# Altium footprint library BSPO.PcbLib: 178 footprints (part 1 of 12)
Each footprint in its own frame and in the unit in brackets; x right, y up, seen from the top. Pads: shape width x height; smd on the part's side, far side on the other; paste and mask are expansions set on the pad; w line width, h text height; cw(c..) or ccw(c..) is an arc to the next point about the centre after c.
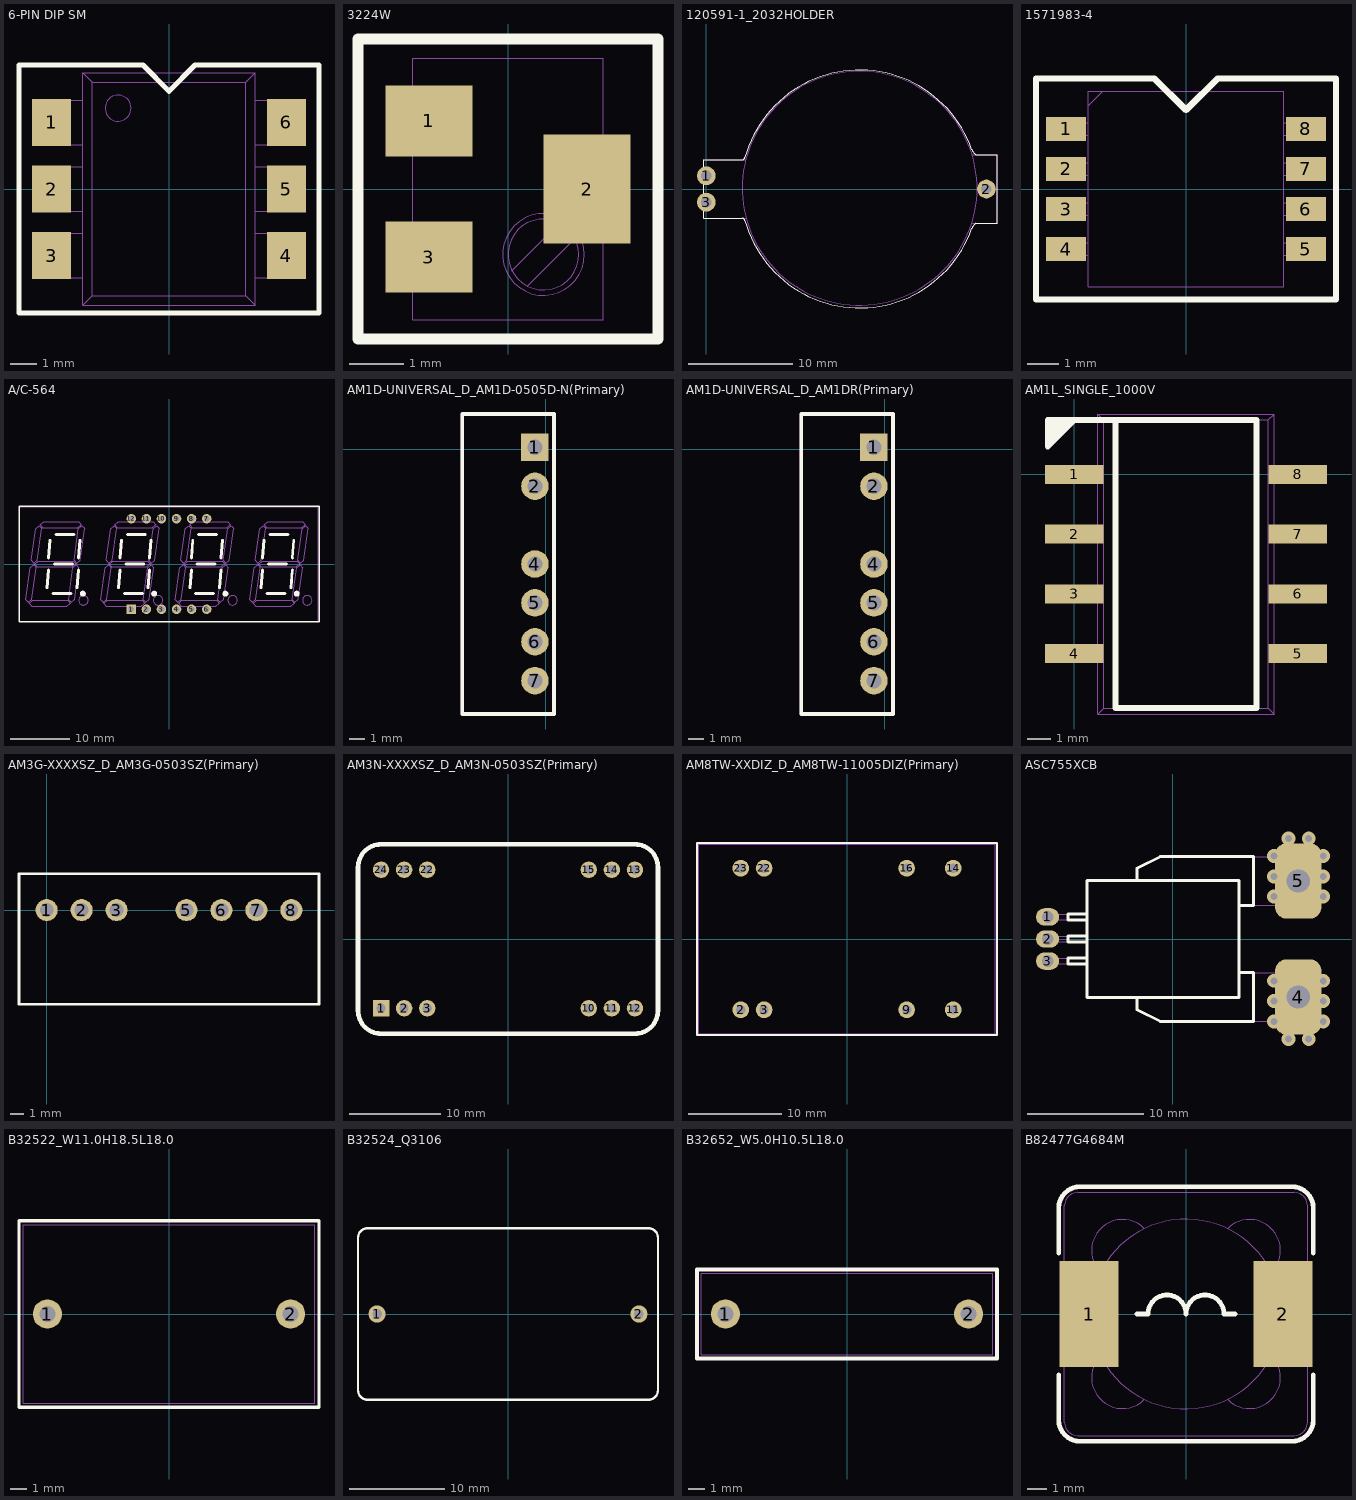
[diagram p0: the footprints below, top view; thin cyan lines are the x and y axes]

## 6-PIN DIP SM [mm]
pads (6):
  rect 1.5x1.8 smd: 1(-4.5,2.55) 2(-4.5,0) 3(-4.5,-2.55) 4(4.5,-2.55) 5(4.5,0) 6(4.5,2.55)
Top Overlay:
  lines w0.2: -5.75,-4.75 5.75,-4.75 5.75,4.75 1,4.75 0,3.75 -1,4.75 -5.75,4.75 -5.75,-4.75
Mechanical 1:
  circle w0.025: c-1.95,3.1 r0.5
  lines w0.025: -4.15,-2.8 -4.75,-2.8 -4.75,-2.55 -4.75,-2.3 -4.15,-2.3 ; -4.15,-0.25 -4.75,-0.25 -4.75,0 -4.75,0.25 -4.15,0.25 ; -4.15,2.3 -4.75,2.3 -4.75,2.55 -4.75,2.8 -4.15,2.8 ; -3.3,-3.4 -4.15,-3.4 -4.15,-1.7 -3.3,-1.7 ; -3.3,-0.85 -4.15,-0.85 -4.15,0.85 -3.3,0.85 ; -3.3,1.7 -4.15,1.7 -4.15,3.4 -3.3,3.4 ; 3.3,-3.4 4.15,-3.4 4.15,-1.7 3.3,-1.7 ; 3.3,-0.85 4.15,-0.85 4.15,0.85 3.3,0.85 ; 3.3,1.7 4.15,1.7 4.15,3.4 3.3,3.4 ; 4.15,-2.8 4.75,-2.8 4.75,-2.55 4.75,-2.3 4.15,-2.3 ; 4.15,-0.25 4.75,-0.25 4.75,0 4.75,0.25 4.15,0.25 ; 4.15,2.3 4.75,2.3 4.75,2.55 4.75,2.8 4.15,2.8 ; -3.3,-4.45 3.3,-4.45 ; -3.3,-4.45 -3.3,4.45 ; -3.3,-4.45 -2.95,-4.1 ; -3.3,4.45 3.3,4.45 ; -3.3,4.45 -2.95,4.1 ; -2.95,-4.1 2.95,-4.1 ; -2.95,-4.1 -2.95,4.1 ; -2.95,4.1 2.95,4.1 ; 2.95,-4.1 2.95,4.1 ; 2.95,-4.1 3.3,-4.45 ; 2.95,4.1 3.3,4.45 ; 3.3,-4.45 3.3,4.45

## 3224W [mm]
pads (3):
  rect 1.6x1.3 smd: 1(-1.45,1.25) 3(-1.45,-1.25)
  rect 1.6x2 smd: 2(1.45,0)
Top Overlay:
  lines w0.2: -2.75,-2.75 2.75,-2.75 2.75,2.75 -2.75,2.75 -2.75,-2.75
Mechanical 1:
  circle w0.02: c0.65,-1.2 r0.75
  circle w0.02: c0.65,-1.2 r0.65
  lines w0.02: 0.071,-1.496 0.946,-0.621 ; 0.354,-1.779 1.229,-0.904 ; -1.75,-2.4 1.75,-2.4 1.75,2.4 -1.75,2.4 -1.75,-2.4
  lines w0.025: -1.75,-1.65 -1.95,-1.65 -1.95,-0.85 -1.75,-0.85 ; -1.75,0.85 -1.95,0.85 -1.95,1.65 -1.75,1.65 ; 1.75,-0.65 1.95,-0.65 1.95,0.65 1.75,0.65

## 120591-1_2032HOLDER [mm]
pads (3):
  round 1.8 hole 1: 1(0,1.27) 2(26.924,0) 3(0,-1.27)
Top Overlay:
  lines w0.1: 3.683,-3.048 ccw(c3.429,-3.048) 3.429,-2.794 -0.254,-2.794 -0.254,2.794 3.429,2.794 ccw(c3.429,3.048) 3.683,3.048 ; 3.712,-3.035 ccw(c14.732,0) 25.513,-3.797 ; 3.712,3.035 cw(c14.732,0) 25.513,3.797 ; 25.527,-3.81 cw(c26.388,-4.059) 25.908,-3.302 27.94,-3.302 27.94,0 27.94,3.302 25.908,3.302 cw(c26.388,4.059) 25.527,3.81
Mechanical 1:
  lines w0.1: -0.254,2.794 -0.254,-2.794 3.81,-2.794 ; -0.127,2.794 3.81,2.794 ; 3.429,0 cw(c14.732,0) 26.034,-0.138 ; 3.43,0.265 ccw(c14.732,0.127) 26.035,0.127 ; 25.527,-3.302 27.94,-3.302 27.94,3.302 25.527,3.302

## 1571983-4 [mm]
pads (8):
  rect 1.27x0.76 smd: 1(-3.8,1.905) 2(-3.8,0.635) 3(-3.8,-0.635) 4(-3.8,-1.905) 5(3.8,-1.905) 6(3.8,-0.635) 7(3.8,0.635) 8(3.8,1.905)
Top Overlay:
  lines w0.2: -4.75,-3.5 4.75,-3.5 4.75,3.5 1,3.5 0,2.5 -1,3.5 -4.75,3.5 -4.75,-3.5
Mechanical 1:
  lines w0.02: -3.103,-2.105 -4.203,-2.105 -4.203,-1.705 -3.103,-1.705 ; -3.103,-0.835 -4.203,-0.835 -4.203,-0.435 -3.103,-0.435 ; -3.103,0.435 -4.203,0.435 -4.203,0.835 -3.103,0.835 ; -3.103,1.705 -4.203,1.705 -4.203,2.105 -3.103,2.105 ; -3.1,2.635 -2.635,3.1 ; 3.103,-2.105 4.203,-2.105 4.203,-1.705 3.103,-1.705 ; 3.103,-0.835 4.203,-0.835 4.203,-0.435 3.103,-0.435 ; 3.103,0.435 4.203,0.435 4.203,0.835 3.103,0.835 ; 3.103,1.705 4.203,1.705 4.203,2.105 3.103,2.105 ; -3.1,-3.1 3.1,-3.1 3.1,3.1 -3.1,3.1 -3.1,-3.1

## A/C-564 [mm]
pads (12):
  rect 1.6x1.6 hole 1: 1(-6.35,-7.62)
  round 1.6 hole 1: 2(-3.81,-7.62) 3(-1.27,-7.62) 4(1.27,-7.62) 5(3.81,-7.62) 6(6.35,-7.62) 7(6.35,7.62) 8(3.81,7.62) 9(1.27,7.62) 10(-1.27,7.62) 11(-3.81,7.62) 12(-6.35,7.62)
Top Overlay:
  circle w0.5: c21.5,-5 r0.25
  circle w0.5: c9.5,-5 r0.25
  circle w0.5: c-2.5,-5 r0.25
  circle w0.5: c-14.5,-5 r0.25
  lines w0.25: -25.25,-9.75 25.25,-9.75 25.25,9.75 -25.25,9.75 -25.25,-9.75
  lines w0.5: -20.5,-4 -20.25,-1 ; -20.25,1 -20,4 ; -19.5,-5 -16.5,-5 ; -19.25,0 -16.25,0 ; -19,5 -16,5 ; -15.5,-4 -15.25,-1 ; -15.25,1 -15,4 ; -8.5,-4 -8.25,-1 ; -8.25,1 -8,4 ; -7.5,-5 -4.5,-5 ; -7.25,0 -4.25,0 ; -7,5 -4,5 ; -3.5,-4 -3.25,-1 ; -3.25,1 -3,4 ; 3.5,-4 3.75,-1 ; 3.75,1 4,4 ; 4.5,-5 7.5,-5 ; 4.75,0 7.75,0 ; 5,5 8,5 ; 8.5,-4 8.75,-1 ; 8.75,1 9,4 ; 15.5,-4 15.75,-1 ; 15.75,1 16,4 ; 16.5,-5 19.5,-5 ; 16.75,0 19.75,0 ; 17,5 20,5 ; 20.5,-4 20.75,-1 ; 20.75,1 21,4
Mechanical 1:
  drawing of 176 lines, arcs and shapes, not listed

## AM1D-UNIVERSAL_D_AM1D-0505D-N(Primary) [mm]
pads (6):
  rect 1.8x1.8 hole 1: 1(-0.69,0.12)
  round 1.8 hole 1: 2(-0.69,-2.42) 4(-0.69,-7.5) 5(-0.69,-10.04) 6(-0.69,-12.58) 7(-0.69,-15.12)
Top Overlay:
  lines w0.25: -5.44,-17.3 0.56,-17.3 0.56,2.3 -5.44,2.3 -5.44,-17.3
Mechanical 1:
  lines w0.025: -5.5,-17.3 0.6,-17.3 0.6,2.3 -5.5,2.3 -5.5,-17.3

## AM1D-UNIVERSAL_D_AM1DR(Primary) [mm]
pads (6):
  rect 1.8x1.8 hole 1: 1(-0.69,0.12)
  round 1.8 hole 1: 2(-0.69,-2.42) 4(-0.69,-7.5) 5(-0.69,-10.04) 6(-0.69,-12.58) 7(-0.69,-15.12)
Top Overlay:
  lines w0.25: -5.44,-17.3 0.56,-17.3 0.56,2.3 -5.44,2.3 -5.44,-17.3
Mechanical 1:
  lines w0.025: -5.5,-17.3 0.6,-17.3 0.6,2.3 -5.5,2.3 -5.5,-17.3

## AM1L_SINGLE_1000V [mm]
pads (8):
  rect 2.5x0.8 smd: 1(0,0) 2(0,-2.54) 3(0,-5.08) 4(0,-7.62) 5(9.5,-7.62) 6(9.5,-5.08) 7(9.5,-2.54) 8(9.5,0)
Top Overlay:
  lines w0.25: -1.125,1.44 -0.25,2.19 -0.875,2.19 -1.125,1.565 -0.375,2.315 0,2.315 -1.125,1.19 -1.125,2.315 1.75,2.315 1.75,-9.935 7.75,-9.935 7.75,2.315 1.74,2.31
Mechanical 1:
  lines w0.05: 0.615,-7.31 0.615,-7.935 -0.885,-7.935 ; 0.615,-4.77 0.615,-5.395 -0.885,-5.395 ; 0.615,-2.23 0.615,-2.855 -0.885,-2.855 ; 0.625,0.315 0.625,-0.31 -0.875,-0.31 ; 0.99,-7.935 -0.885,-7.935 ; 0.99,-7.31 -0.885,-7.31 -0.885,-7.935 ; 0.99,-5.395 -0.885,-5.395 ; 0.99,-4.77 -0.885,-4.77 -0.885,-5.395 ; 0.99,-2.855 -0.885,-2.855 ; 0.99,-2.23 -0.885,-2.23 -0.885,-2.855 ; 1,-10.16 1,2.565 ; 1,-0.31 -0.875,-0.31 ; 1,0.315 -0.875,0.315 -0.875,-0.31 ; 5.625,2.565 8.5,2.565 ; 5.75,2.565 1,2.565 ; 8.5,-7.935 10.375,-7.935 10.375,-7.31 ; 8.5,-7.31 10.375,-7.31 ; 8.51,-5.39 10.385,-5.39 10.385,-4.765 ; 8.51,-4.765 10.385,-4.765 ; 8.51,-2.85 10.385,-2.85 10.385,-2.225 ; 8.51,-2.225 10.385,-2.225 ; 8.51,-0.31 10.385,-0.31 10.385,0.315 ; 8.51,0.315 10.385,0.315 ; 8.875,-7.935 8.875,-7.31 10.375,-7.31 ; 8.885,-5.39 8.885,-4.765 10.385,-4.765 ; 8.885,-2.85 8.885,-2.225 10.385,-2.225 ; 8.885,-0.31 8.885,0.315 10.385,0.315 ; 1,2.565 1.25,2.315 ; 1.25,-9.935 8.25,-9.935 ; 1.25,-9.935 1.25,2.315 ; 1.25,-9.935 1,-10.185 8.5,-10.185 ; 1.25,2.315 8.25,2.315 ; 8.25,-9.935 8.25,2.315 ; 8.25,-9.935 8.5,-10.185 ; 8.25,2.315 8.5,2.565 ; 8.5,-10.185 8.5,2.565

## AM3G-XXXXSZ_D_AM3G-0503SZ(Primary) [mm]
pads (7):
  round 1.6 hole 1: 1(0,0) 2(2.54,0) 3(5.08,0) 5(10.16,0) 6(12.7,0) 7(15.24,0) 8(17.78,0)
Top Overlay:
  lines w0.2: -2.01,-6.85 19.79,-6.85 19.79,2.65 -2.01,2.65 -2.01,-6.85
Mechanical 1:
  lines w0.02: -2.01,-6.85 19.79,-6.85 19.79,2.65 -2.01,2.65 -2.01,-6.85

## AM3N-XXXXSZ_D_AM3N-0503SZ(Primary) [mm]
pads (12):
  rect 1.8x1.8 hole 1: 1(-13.97,-7.62)
  round 1.8 hole 1: 2(-11.43,-7.62) 3(-8.89,-7.62) 10(8.89,-7.62) 11(11.43,-7.62) 12(13.97,-7.62) 13(13.97,7.62) 14(11.43,7.62) 15(8.89,7.62) 22(-8.89,7.62) 23(-11.43,7.62) 24(-13.97,7.62)
Top Overlay:
  lines w0.5: -16.51,-7.874 ccw(c-13.97,-7.874) -13.97,-10.414 13.97,-10.414 ccw(c13.97,-7.874) 16.51,-7.874 16.51,7.874 ccw(c13.97,7.874) 13.97,10.414 -13.97,10.414 ccw(c-13.97,7.874) -16.51,7.874 -16.51,-7.874

## AM8TW-XXDIZ_D_AM8TW-11005DIZ(Primary) [mm]
pads (8):
  round 1.8 hole 1: 2(-11.4,-7.6) 3(-8.9,-7.6) 9(6.4,-7.6) 11(11.4,-7.6) 14(11.4,7.6) 16(6.4,7.6) 22(-8.9,7.6) 23(-11.4,7.6)
Top Overlay:
  lines w0.2: -16.1,-10.3 16.1,-10.3 16.1,10.3 -16.1,10.3 -16.1,-10.3
Mechanical 1:
  lines w0.02: -15.9,-10.15 15.9,-10.15 15.9,10.15 -15.9,10.15 -15.9,-10.15

## ASC755XCB [mm]
pads (5):
  oval 2x1.5 hole 1: 1(-10.8,1.9) 2(-10.8,0) 3(-10.8,-1.9)
  rrect50% 4x6.5 hole 2: 4(10.8,-5) 5(10.8,5)
via 12.95,7.15 diameter 1.2 hole 0.6
via 8.7,7.15 diameter 1.2 hole 0.6
via 12.95,-7.1 diameter 1.2 hole 0.6
via 8.7,-7.1 diameter 1.2 hole 0.6
via 11.7,8.65 diameter 1.2 hole 0.6
via 9.95,8.65 diameter 1.2 hole 0.6
via 12.95,3.65 diameter 1.2 hole 0.6
via 12.95,5.4 diameter 1.2 hole 0.6
via 8.7,3.65 diameter 1.2 hole 0.6
via 8.7,5.4 diameter 1.2 hole 0.6
via 12.95,-3.6 diameter 1.2 hole 0.6
via 12.95,-5.35 diameter 1.2 hole 0.6
via 8.7,-3.6 diameter 1.2 hole 0.6
via 8.7,-5.35 diameter 1.2 hole 0.6
via 9.95,-8.6 diameter 1.2 hole 0.6
via 11.7,-8.6 diameter 1.2 hole 0.6
Top Overlay:
  lines w0.25: -7.4,-2.15 -9.05,-2.15 -9.05,-1.65 -7.4,-1.65 ; -7.4,-0.25 -9.05,-0.25 -9.05,0.25 -7.4,0.25 ; -7.4,1.65 -9.05,1.65 -9.05,2.15 -7.4,2.15 ; -3.1,-5.05 -3.1,-6.1 -1.1,-7.1 6.95,-7.1 6.95,-2.9 5.7,-2.9 ; -3.1,5.05 -3.1,6.1 -1.1,7.1 6.95,7.1 6.95,2.9 5.7,2.9 ; -7.4,-5.05 5.7,-5.05 5.7,5.05 -7.4,5.05 -7.4,-5.05
Keep-Out Layer:
  lines w0.25: 9.8,-6.75 ccw(c10.8,-6.75) 11.8,-6.75 11.8,-3.25 ccw(c10.8,-3.25) 9.8,-3.25 9.8,-6.75 ; 9.8,3.25 ccw(c10.8,3.25) 11.8,3.25 11.8,6.75 ccw(c10.8,6.75) 9.8,6.75 9.8,3.25
Mechanical 1:
  lines w0.025: -7.4,-2.15 -10.8,-2.15 -10.8,-1.65 -7.4,-1.65 ; -7.4,-0.25 -10.8,-0.25 -10.8,0.25 -7.4,0.25 ; -7.4,1.65 -10.8,1.65 -10.8,2.15 -7.4,2.15 ; -3.1,-5.05 -3.1,-6.1 -1.1,-7.1 11.7,-7.1 ; -3.1,5.05 -3.1,6.1 -1.1,7.1 11.7,7.1 ; 5.7,-2.9 11.7,-2.9 ; 5.7,2.9 11.7,2.9 ; 10.1,-7.1 10.1,-2.9 ; 11.7,-7.1 11.7,-2.9 ; 11.7,-7.1 11.7,-2.9 ; 11.7,2.9 11.7,7.1 ; 11.7,2.9 11.7,7.1 ; -7.4,-5.05 5.7,-5.05 5.7,5.05 -7.4,5.05 -7.4,-5.05

## B32522_W11.0H18.5L18.0 [mm]
pads (2):
  round 1.8 hole 1: 1(-7.5,0) 2(7.5,0)
Top Overlay:
  lines w0.2: -9.25,-5.75 9.25,-5.75 9.25,5.75 -9.25,5.75 -9.25,-5.75
Mechanical 1:
  lines w0.02: -9,-5.5 9,-5.5 9,5.5 -9,5.5 -9,-5.5

## B32524_Q3106 [mm]
pads (2):
  round 1.8 hole 1: 1(-13.75,0) 2(13.75,0)
Top Overlay:
  lines w0.25: -15.75,-8 ccw(c-14.75,-8) -14.75,-9 14.75,-9 ccw(c14.75,-8) 15.75,-8 15.75,8 ccw(c14.75,8) 14.75,9 -14.75,9 ccw(c-14.75,8) -15.75,8 -15.75,-8
Mechanical 1:
  lines w0.025: -15.75,-8 ccw(c-14.75,-8) -14.75,-9 14.75,-9 ccw(c14.75,-8) 15.75,-8 15.75,8 ccw(c14.75,8) 14.75,9 -14.75,9 ccw(c-14.75,8) -15.75,8 -15.75,-8

## B32652_W5.0H10.5L18.0 [mm]
pads (2):
  round 1.8 hole 1: 1(-7.5,0) 2(7.5,0)
Top Overlay:
  lines w0.25: -9.25,-2.75 9.25,-2.75 9.25,2.75 -9.25,2.75 -9.25,-2.75
Mechanical 1:
  lines w0.025: -9,-2.5 9,-2.5 9,2.5 -9,2.5 -9,-2.5

## B82477G4684M [mm]
pads (2):
  rect 3.1x5.6 smd: 1(-5.1,0) 2(5.1,0)
Top Overlay:
  lines w0.25: -6.7,-3.2 -6.7,-5.6 ccw(c-5.6,-5.6) -5.6,-6.7 5.6,-6.7 ccw(c5.6,-5.6) 6.7,-5.6 6.7,-3.2 ; -6.7,3.2 -6.7,5.6 cw(c-5.6,5.6) -5.6,6.7 5.6,6.7 cw(c5.6,5.6) 6.7,5.6 6.7,3.2 ; -2.6,0 -2,0 cw(c-1,0) 0,0 cw(c1,0) 2,0 2.6,0
Mechanical 1:
  circle w0.05: c0,0 r5
  lines w0.05: -4.5,-2.2 ccw(c-3.35,-3.35) -2.2,-4.5 ; -4.5,2.2 cw(c-3.35,3.35) -2.2,4.5 ; 2.2,-4.5 ccw(c3.35,-3.35) 4.5,-2.2 ; 2.2,4.5 cw(c3.35,3.35) 4.5,2.2 ; -6.4,5.7 cw(c-5.7,5.7) -5.7,6.4 ; -6.4,5.7 cw(c-5.7,5.7) -5.7,6.4 ; -6.4,5.7 -6.4,-5.7 ccw(c-5.7,-5.7) -5.7,-6.4 5.7,-6.4 ccw(c5.7,-5.7) 6.4,-5.7 6.4,5.7 ccw(c5.7,5.7) 5.7,6.4 -5.7,6.4